# Altium footprint library kozylib.PcbLib: 7 footprints
Each footprint in its own frame and in the unit in brackets; x right, y up, seen from the top. Pads: shape width x height; smd on the part's side, far side on the other; paste and mask are expansions set on the pad; w line width, h text height; cw(c..) or ccw(c..) is an arc to the next point about the centre after c.
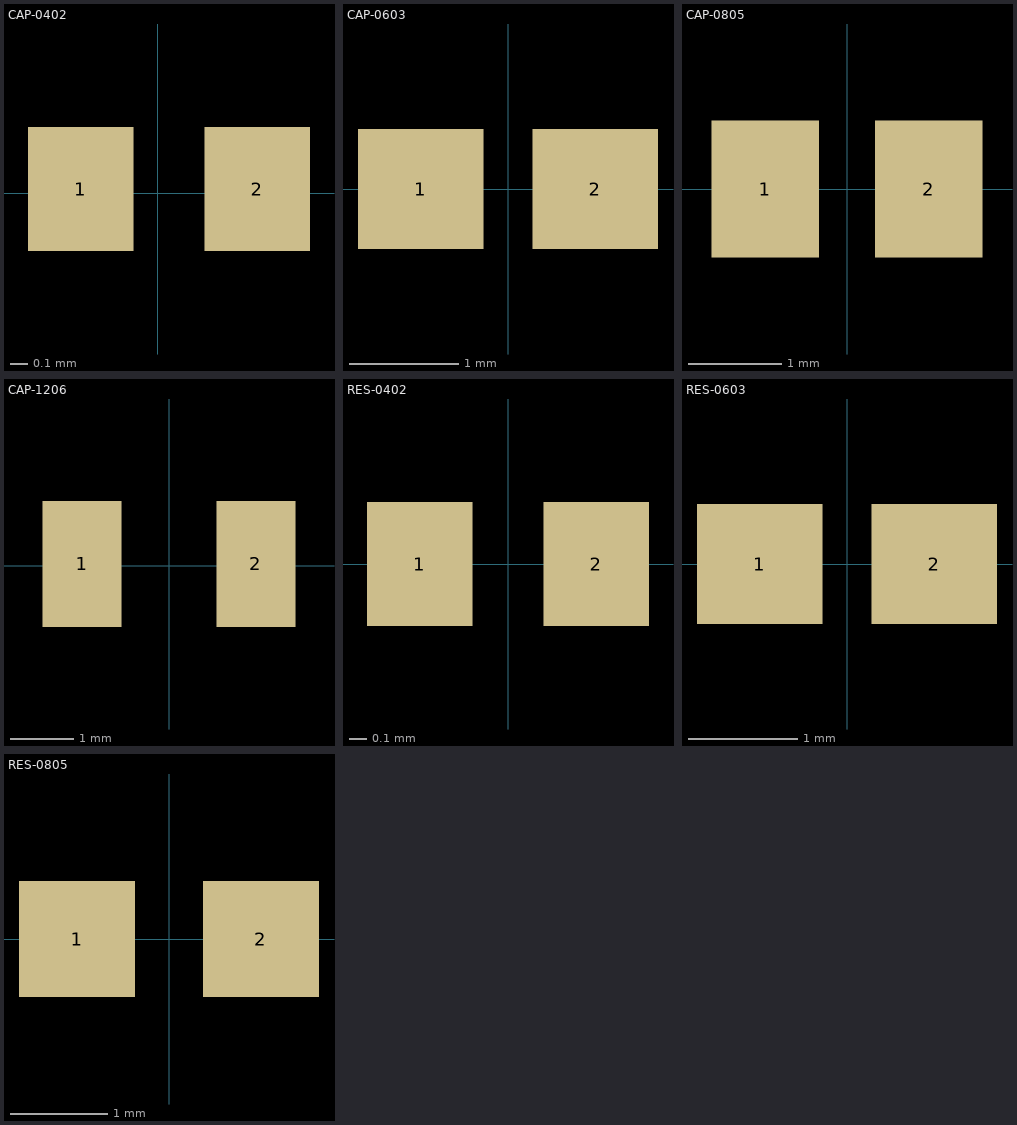
[diagram p0: the footprints below, top view; thin cyan lines are the x and y axes]

## CAP-0402 [mm]
pads (2):
  rect 0.6x0.7 smd: 1(-0.435,0.025) 2(0.565,0.025)
3D body "GRM155R71H162JA01J.STEP": height 0.5, standoff 0, extent -0.435,-0.2 0.565,0.25

## CAP-0603 [mm]
pads (2):
  rect 1.15x1.1 smd: 1(-0.8,0) 2(0.8,0)
3D body "LD033A221JAB2A.STEP": height 0.8, standoff -0.01, extent -0.8,-0.45 0.8,0.45

## CAP-0805 [mm]
pads (2):
  rect 1.16x1.47 smd: 1(-0.88,0) 2(0.88,0)
3D body "0805YC103J4T2A.STEP": height 0.94, standoff 0, extent -1.005,-0.625 1.005,0.625

## CAP-1206 [mm]
pads (2):
  rect 1.25x2 smd: 1(-1.375,0.025) 2(1.375,0.025)
3D body "GRM31A5C2E272JWA1D.STEP": height 1.5, standoff 0, extent -1.6,-0.775 1.6,0.825

## RES-0402 [mm]
pads (2):
  rect 0.6x0.7 smd: 1(-0.5,0) 2(0.5,0)
3D body "1879131-6.stp": height 0.3, standoff 0, extent -0.5,-0.25 0.5,0.25

## RES-0603 [mm]
pads (2):
  rect 1.15x1.1 smd: 1(-0.8,0) 2(0.8,0)
3D body "2176051-4.STEP": height 0.43, standoff -0.03, extent -0.8,-0.4 0.8,0.4

## RES-0805 [mm]
pads (2):
  rect 1.2x1.2 smd: 1(-0.95,0) 2(0.95,0)
3D body "RC0805N_PAN.step": height 0.71, standoff 0, extent -1,-0.6 1,0.6